# EAGLE library part MAX3076 (library maxim)
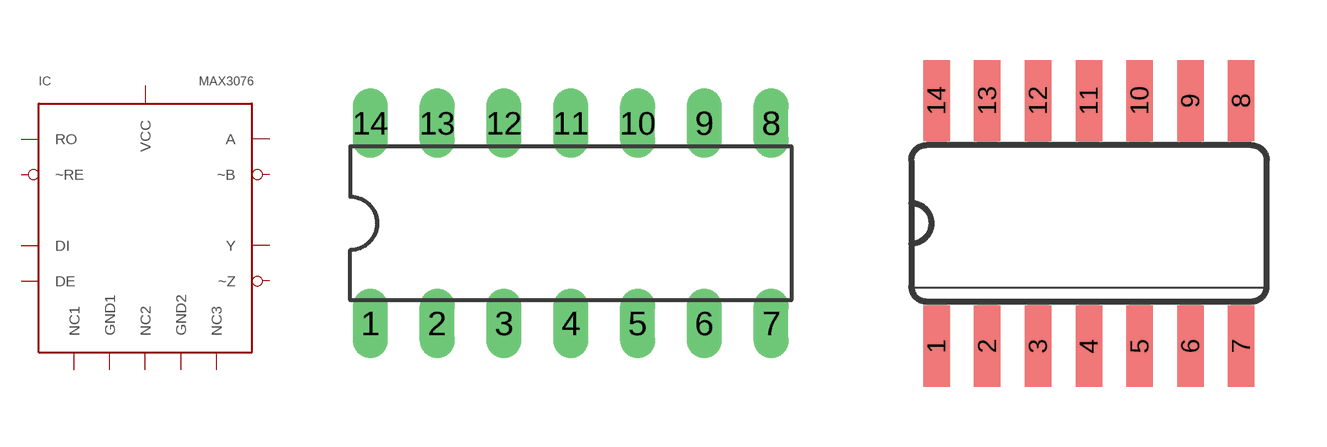
[diagram p391: symbol with the pads of DIL14; footprints DIL14, SO14]

Designator prefix IC

## MAX3076DIL14  [DIL14]

## MAX3076SO14  [SO14]
1  NC1  nc
2  RO  pas
3  ~RE  pas
4  DE  pas
5  DI  pas
6  GND1  pas
7  GND2  pas
8  NC2  pas
9  Y  pas
10  ~Z  pas
11  ~B  pas
12  A  pas
13  NC3  pas
14  VCC  pas

## Footprint DIL14 (pad centres in mm)
Dual In Line Package
drill 0.813 long: 1 -7.62,-3.81; 2 -5.08,-3.81; 3 -2.54,-3.81; 4 0,-3.81; 5 2.54,-3.81; 6 5.08,-3.81; 7 7.62,-3.81; 8 7.62,3.81; 9 5.08,3.81; 10 2.54,3.81; 11 0,3.81; 12 -2.54,3.81; 13 -5.08,3.81; 14 -7.62,3.81

## Footprint SO14 (pad centres in mm)
Small Outline Package
smd 0.66 x 2.032: 1 -3.81,-3.073; 2 -2.54,-3.073; 3 -1.27,-3.073; 4 0,-3.073; 5 1.27,-3.073; 6 2.54,-3.073; 7 3.81,-3.073; 8 3.81,3.073; 9 2.54,3.073; 10 1.27,3.073; 11 0,3.073; 12 -1.27,3.073; 13 -2.54,3.073; 14 -3.81,3.073